# Altium schematic symbol library food_box.SchLib: 19 symbols
Pins are listed as number, name and electrical type; pins without a type are passive.

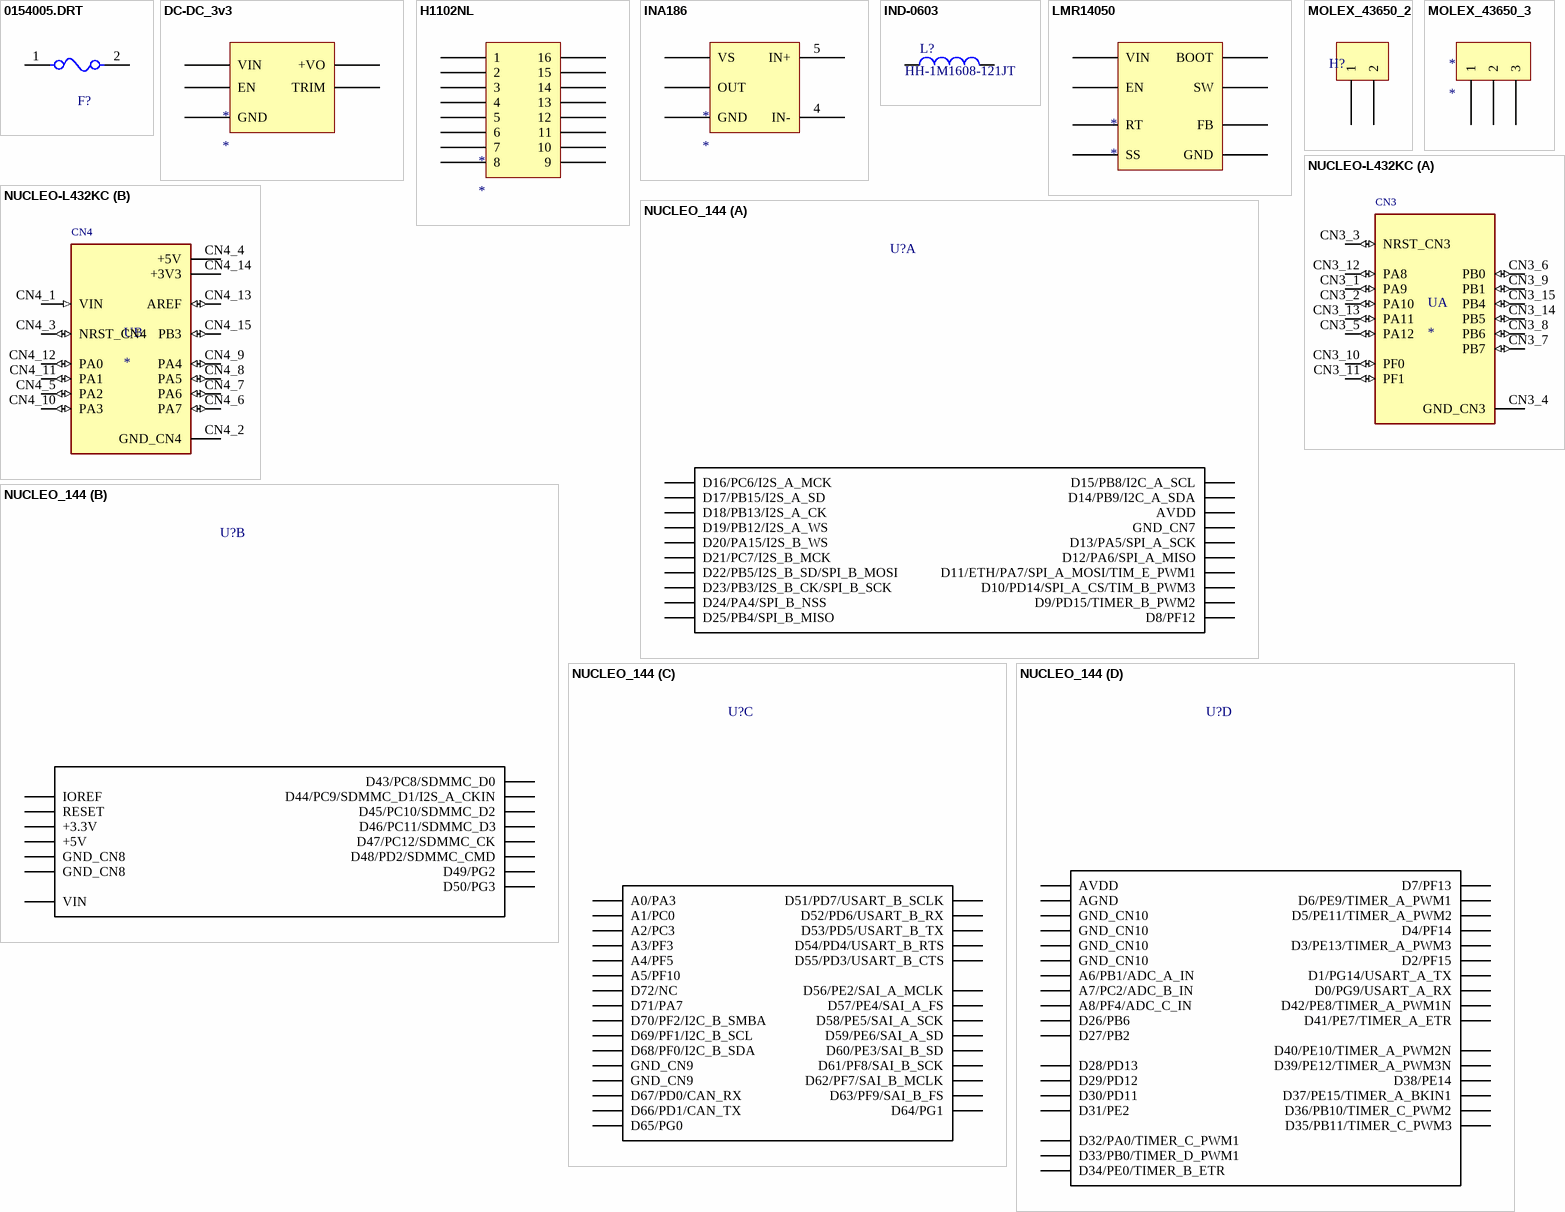
[diagram p0: symbols 0154005.DRT to NUCLEO_144]

## 0154005.DRT
designator F?  (value not drawn)
FUSE BRD MNT 5A 125VAC/VDC 2SMD; Manufacturer: Littelfuse; Manufacturer Part Number: 0154005DRT; Color: White; Body Material: Ceramic,Thermoplastic; Voltage Rating (AC): 125V; DC Cold Resistance: 13.6mR; Power Dissipation: 125W; Fuse Type: Board Mount (Cartridge Style Excluded); Approvals: UL,PSE; Supplier 1: Digi-Key; Supplier Part Number 1: F1310CT-ND; Category: Fuses; Pricing 1: 1=3.140000, 5=3.040000, 10=2.935000, 50=2.306200, 100=1.886900, 250=1.834520, 500=1.572460 (USD); Mount: Surface Mount,Holder; Case/Package: SMD/SMT; Number of Pins: 2; Terminal Material: Copper; Min Operating Temperature: -55°C; Max Operating Temperature: 125°C; Current Rating: 5A; Packaging: Tape and Reel; Voltage Rating (DC): 125V; Package Quantity: 1500; Working Voltage: 125V; Voltage Rating: 125V; Termination: SMD/SMT; Fuse Current: 5A; Length: 9.73mm; Height: 3.81mm; Width: 5.03mm; Depth: 5.03mm; Radiation Hardening: No; Lead Free: Lead Free; REACH SVHC: Unknown; Flammability Rating: UL94 V-0; ComponentLink1URL: https://datasheet.ciiva.com/15187/getdatasheetpartid-71302-15187877.pdf?src-supplier=Verical; ComponentLink1Description: https://datasheet.ciiva.com/15187/getdatasheetpartid-71302-15187877.pdf?src-supplier=Verical; ComponentLink2URL: https://datasheet.ciiva.com/14159/aa154xxx-data-e-14159686.pdf?src-supplier=Distrelec; ComponentLink2Description: https://datasheet.ciiva.com/14159/aa154xxx-data-e-14159686.pdf?src-supplier=Distrelec; ComponentLink3URL: https://datasheet.ciiva.com/22712/1840330-22712966.pdf?src-supplier=Element14; ComponentLink3Description: https://datasheet.ciiva.com/22712/1840330-22712966.pdf?src-supplier=Element14; ComponentLink4URL: https://datasheet.ciiva.com/1268/1840330-1268664.pdf?src-supplier=Element14; ComponentLink4Description: https://datasheet.ciiva.com/1268/1840330-1268664.pdf?src-supplier=Element14; ComponentLink5URL: https://datasheet.ciiva.com/4483/littelfuse-fuse-154-154t-154l-154tl-datasheet-pdf-309941-4483517.pdf?src-supplier=Mouser; ComponentLink5Description: https://datasheet.ciiva.com/4483/littelfuse-fuse-154-154t-154l-154tl-datasheet-pdf-309941-4483517.pdf?src-supplier=Mouser; ComponentLink6URL: https://datasheet.ciiva.com/46406/1840330-46406109.pdf?src-supplier=Element14; ComponentLink6Description: https://datasheet.ciiva.com/46406/1840330-46406109.pdf?src-supplier=Element14; ComponentLink7URL: https://datasheet.ciiva.com/46406/1788337-46406175.pdf?src-supplier=Element14; ComponentLink7Description: https://datasheet.ciiva.com/46406/1788337-46406175.pdf?src-supplier=Element14
footprint Littelfuse_0154_0
pins: 1, 2

## DC-DC_3v3
designator *
footprint V78E-1000-SMT
pins: 1 EN, 2 GND (power), 3 VIN, 4 +VO, 5 TRIM

## H1102NL
designator *
footprint H1102NL
pins: 1, 2, 3, 4, 5, 6, 7, 8, 9, 10, 11, 12, 13, 14, 15, 16

## INA186
designator *
Manufacturer: Texas Instruments; Manufacturer Part Number: INA186A4IDCKR; Supplier 1: Digi-Key; Supplier Part Number 1: 296-INA186A4IDCKRCT-ND; Category: Amplifiers - Op Amps, Buffer, Instrumentation; Pricing 1: 1=1.39000, 10=1.23900, 25=1.17600, 100=0.90300, 250=0.79800, 500=0.75600, 1000=0.58800 (USD)
footprint SOT23-5
pins: 1 GND, 2 OUT, 3 VS, 4 IN-, 5 IN+

## IND-0603
designator L?, comment HH-1M1608-121JT
Inductor 0603(1608)
footprint IND-0603 (Inductor 0603(1608))
pins: 1, 2

## LMR14050
designator *
footprint HSOIC-8
pins: 1 BOOT, 2 VIN, 3 EN, 4 RT, 5 FB, 6 SS, 7 GND, 8 SW

## MOLEX_43650_2
designator H?
Conn Power HDR 3 POS 3mm Solder ST Thru-Hole 3 Terminal 1 Port Micro-Fit 3.0™ Tray; Manufacturer: Molex; Manufacturer Part Number: 43650-0227; Connector Type: Header,Male Pin; Number of Positions: 2; Number of Ports: 1; Contact Resistance: 30mR; Gender: Male; Max Voltage Rating (AC): 250V; Supplier 1: Digi-Key; Supplier Part Number 1: WM10656-ND; Category: Connectors; Pricing 1: 1=0.80000, 10=0.74800, 100=0.57340, 500=0.49860, 1000=0.41135, 5000=0.36149, 10000=0.33656 (USD); Mount: Through Hole; Contact Plating: Tin,Bright; Color: Black; Contact Material: Brass; Housing Material: Thermoplastic; Number of Terminals: 2; Contact Shape: Square; Insulation Material: Polymer; Min Operating Temperature: -40°C; Max Operating Temperature: 105°C; Packaging: Tray; Package Quantity: 3264; Number of Rows: 1; Termination: Solder; Fastening Type: Ramp; Number of Contacts: 2; Orientation: Straight; Length: 9.65mm; Pitch: 3mm; Depth: 5.57mm; ComponentLink1URL: https://datasheet.ciiva.com/6840/436500227-sd-6840390.pdf?src-supplier=Digi-Key; ComponentLink1Description: https://datasheet.ciiva.com/6840/436500227-sd-6840390.pdf?src-supplier=Digi-Key; ComponentLink2URL: https://datasheet.ciiva.com/3944/28290436500227-pcb-headers-3944690.pdf?src-supplier=Arrow; ComponentLink2Description: https://datasheet.ciiva.com/3944/28290436500227-pcb-headers-3944690.pdf?src-supplier=Arrow; ComponentLink3URL: https://datasheet.ciiva.com/30077/0436500227-pcb-headers-30077244.pdf?src-supplier=Onlinecomponents.com; ComponentLink3Description: https://datasheet.ciiva.com/30077/0436500227-pcb-headers-30077244.pdf?src-supplier=Onlinecomponents.com; ComponentLink4URL: https://datasheet.ciiva.com/7920/1629867-7920765.pdf?src-supplier=Element14; ComponentLink4Description: https://datasheet.ciiva.com/7920/1629867-7920765.pdf?src-supplier=Element14; Supplier 2: Digi-Key; Supplier Part Number 2: WM1918-ND; Pricing 2: 1=1.03000, 10=0.90800, 100=0.78360, 500=0.64116, 1000=0.56992, 5000=0.49868, 10000=0.47375 (USD); Housing Color: Black; Max Voltage Rating (DC): 250V; ComponentLink5URL: https://datasheet.ciiva.com/6813/436500516-sd-6813986.pdf?src-supplier=Digi-Key; ComponentLink5Description: https://datasheet.ciiva.com/6813/436500516-sd-6813986.pdf?src-supplier=Digi-Key; ComponentLink6URL: https://datasheet.ciiva.com/26916/getdatasheetpartid-253023-26916517.pdf?src-supplier=Verical; ComponentLink6Description: https://datasheet.ciiva.com/26916/getdatasheetpartid-253023-26916517.pdf?src-supplier=Verical
footprint MOLEX_43650_2 (Molex Microfit 3.0 2P)
pins: 1, 2

## MOLEX_43650_3
designator *
Conn Power HDR 3 POS 3mm Solder ST Thru-Hole 3 Terminal 1 Port Micro-Fit 3.0™ Tray; Manufacturer: Molex; Manufacturer Part Number: 0436500315; Contact Resistance: 30mR; Gender: Male; Number of Positions: 3; Max Voltage Rating (AC): 250V; Connector Type: Male Pin; Number of Ports: 1; Supplier 1: Digi-Key; Supplier Part Number 1: WM1918-ND; Category: Headers and Wire Housings; Pricing 1: 1=1.03000, 10=0.90800, 100=0.78360, 500=0.64116, 1000=0.56992, 5000=0.49868, 10000=0.47375 (USD); Mount: Through Hole; Contact Plating: Tin; Color: Black; Contact Material: Brass; Housing Color: Black; Housing Material: Polymer; Number of Terminals: 3; Min Operating Temperature: -40°C; Max Operating Temperature: 105°C; Packaging: Tray; Number of Rows: 1; Orientation: Straight; Termination: Solder; Number of Contacts: 3; Max Voltage Rating (DC): 250V; Fastening Type: Ramp; Length: 12.65mm; Pitch: 3mm; Depth: 5.57mm; ComponentLink1URL: https://datasheet.ciiva.com/6813/436500516-sd-6813986.pdf?src-supplier=Digi-Key; ComponentLink1Description: https://datasheet.ciiva.com/6813/436500516-sd-6813986.pdf?src-supplier=Digi-Key; ComponentLink2URL: https://datasheet.ciiva.com/26916/getdatasheetpartid-253023-26916517.pdf?src-supplier=Verical; ComponentLink2Description: https://datasheet.ciiva.com/26916/getdatasheetpartid-253023-26916517.pdf?src-supplier=Verical
footprint MOLEX_43650_3 (Molex Microfit 3MM connector 3-pin)
pins: 1, 2, 3

## NUCLEO-L432KC
designator U
STM32L432KC, mbed-Enabled Development Nucleo-32 STM32L4 ARMÂ® CortexÂ®-M4 MCU 32-Bit Embedded Evaluation Board; MF: STMicroelectronics; MP: NUCLEO-L432KC; Price: None; Value: *; Package: None; Availability: Unavailable; SnapEDA_Link: https://www.snapeda.com/parts/NUCLEO-L432KC/STMicroelectronics/view-part/628463/?ref=snap
footprint MODULE_NUCLEO-L432KC
part A pins: CN3_1 PA9 (io), CN3_2 PA10 (io), CN3_3 NRST_CN3 (io), CN3_4 GND_CN3 (power), CN3_5 PA12 (io), CN3_6 PB0 (io), CN3_7 PB7 (io), CN3_8 PB6 (io), CN3_9 PB1 (io), CN3_10 PF0 (io), CN3_11 PF1 (io), CN3_12 PA8 (io), CN3_13 PA11 (io), CN3_14 PB5 (io), CN3_15 PB4 (io)
part B pins: CN4_1 VIN (in), CN4_2 GND_CN4 (power), CN4_3 NRST_CN4 (io), CN4_4 +5V (power), CN4_5 PA2 (io), CN4_6 PA7 (io), CN4_7 PA6 (io), CN4_8 PA5 (io), CN4_9 PA4 (io), CN4_10 PA3 (io), CN4_11 PA1 (io), CN4_12 PA0 (io), CN4_13 AREF (io), CN4_14 +3V3 (power), CN4_15 PB3 (io)
part A text: CN3
part B text: CN4

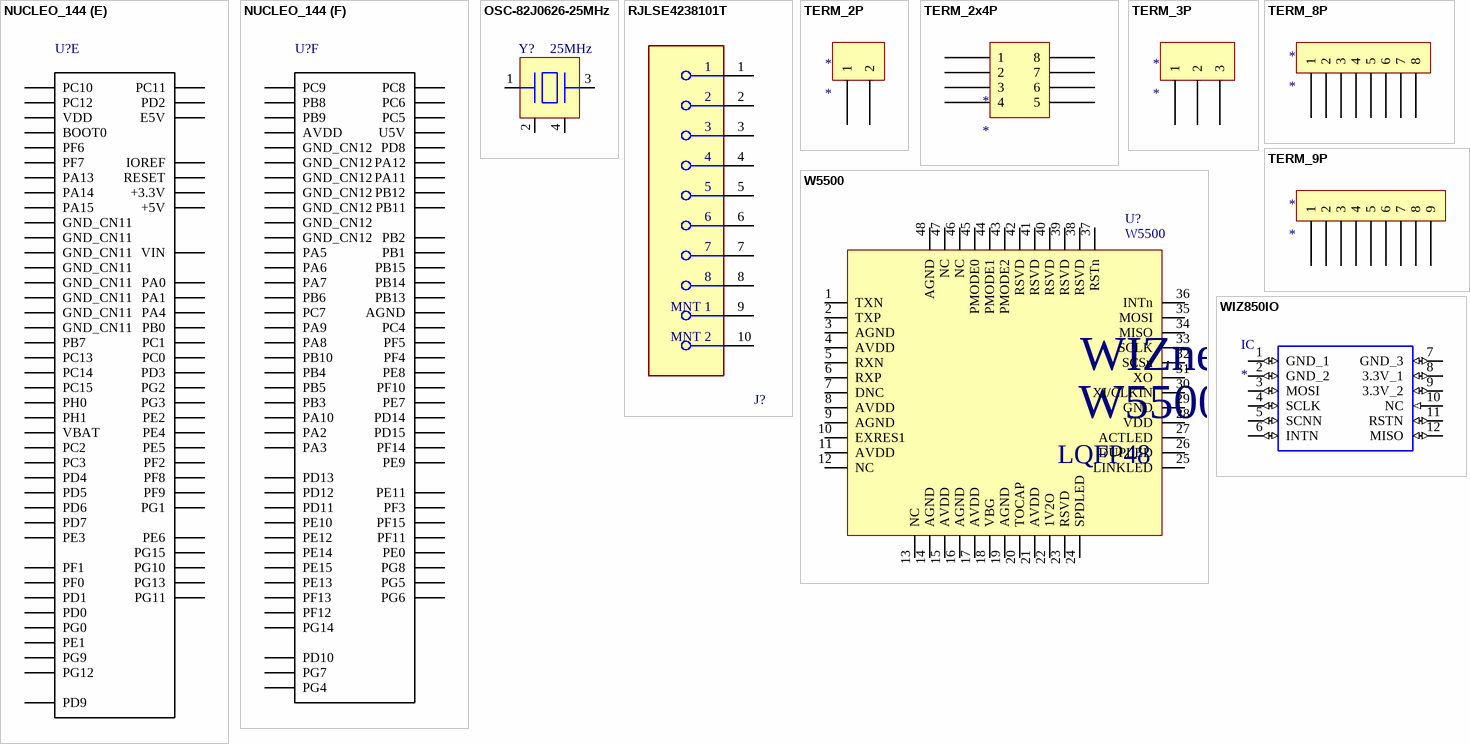
[diagram p1: symbols NUCLEO_144 to WIZ850IO]

## NUCLEO_144
designator U?
STM32 NUCLEO-144 BOARD
footprint NUCLEO_144 (STM32 Nucelo 144 format)
part A pins: CN7_1 D16/PC6/I2S_A_MCK, CN7_2 D15/PB8/I2C_A_SCL, CN7_3 D17/PB15/I2S_A_SD, CN7_4 D14/PB9/I2C_A_SDA, CN7_5 D18/PB13/I2S_A_CK, CN7_6 AVDD, CN7_7 D19/PB12/I2S_A_WS, CN7_8 GND_CN7, CN7_9 D20/PA15/I2S_B_WS, CN7_10 D13/PA5/SPI_A_SCK, CN7_11 D21/PC7/I2S_B_MCK, CN7_12 D12/PA6/SPI_A_MISO, CN7_13 D22/PB5/I2S_B_SD/SPI_B_MOSI, CN7_14 D11/ETH/PA7/SPI_A_MOSI/TIM_E_PWM1, CN7_15 D23/PB3/I2S_B_CK/SPI_B_SCK, CN7_16 D10/PD14/SPI_A_CS/TIM_B_PWM3, CN7_17 D24/PA4/SPI_B_NSS, CN7_18 D9/PD15/TIMER_B_PWM2, CN7_19 D25/PB4/SPI_B_MISO, CN7_20 D8/PF12
part B pins: CN8_2 D43/PC8/SDMMC_D0, CN8_3 IOREF, CN8_4 D44/PC9/SDMMC_D1/I2S_A_CKIN, CN8_5 RESET, CN8_6 D45/PC10/SDMMC_D2, CN8_7 +3.3V, CN8_8 D46/PC11/SDMMC_D3, CN8_9 +5V, CN8_10 D47/PC12/SDMMC_CK, CN8_11 GND_CN8, CN8_12 D48/PD2/SDMMC_CMD, CN8_13 GND_CN8, CN8_14 D49/PG2, CN8_15 VIN, CN8_16 D50/PG3
part C pins: CN9_1 A0/PA3, CN9_2 D51/PD7/USART_B_SCLK, CN9_3 A1/PC0, CN9_4 D52/PD6/USART_B_RX, CN9_5 A2/PC3, CN9_6 D53/PD5/USART_B_TX, CN9_7 A3/PF3, CN9_8 D54/PD4/USART_B_RTS, CN9_9 A4/PF5, CN9_10 D55/PD3/USART_B_CTS, CN9_11 A5/PF10, CN9_12 GND_CN9, CN9_13 D72/NC, CN9_14 D56/PE2/SAI_A_MCLK, CN9_15 D71/PA7, CN9_16 D57/PE4/SAI_A_FS, CN9_17 D70/PF2/I2C_B_SMBA, CN9_18 D58/PE5/SAI_A_SCK, CN9_19 D69/PF1/I2C_B_SCL, CN9_20 D59/PE6/SAI_A_SD, CN9_21 D68/PF0/I2C_B_SDA, CN9_22 D60/PE3/SAI_B_SD, CN9_23 GND_CN9, CN9_24 D61/PF8/SAI_B_SCK, CN9_25 D67/PD0/CAN_RX, CN9_26 D62/PF7/SAI_B_MCLK, CN9_27 D66/PD1/CAN_TX, CN9_28 D63/PF9/SAI_B_FS, CN9_29 D65/PG0, CN9_30 D64/PG1
part D pins: CN10_1 AVDD, CN10_2 D7/PF13, CN10_3 AGND, CN10_4 D6/PE9/TIMER_A_PWM1, CN10_5 GND_CN10, CN10_6 D5/PE11/TIMER_A_PWM2, CN10_7 A6/PB1/ADC_A_IN, CN10_8 D4/PF14, CN10_9 A7/PC2/ADC_B_IN, CN10_10 D3/PE13/TIMER_A_PWM3, CN10_11 A8/PF4/ADC_C_IN, CN10_12 D2/PF15, CN10_13 D26/PB6, CN10_14 D1/PG14/USART_A_TX, CN10_15 D27/PB2, CN10_16 D0/PG9/USART_A_RX, CN10_17 GND_CN10, CN10_18 D42/PE8/TIMER_A_PWM1N, CN10_19 D28/PD13, CN10_20 D41/PE7/TIMER_A_ETR, CN10_21 D29/PD12, CN10_22 GND_CN10, CN10_23 D30/PD11, CN10_24 D40/PE10/TIMER_A_PWM2N, CN10_25 D31/PE2, CN10_26 D39/PE12/TIMER_A_PWM3N, CN10_27 GND_CN10, CN10_28 D38/PE14, CN10_29 D32/PA0/TIMER_C_PWM1, CN10_30 D37/PE15/TIMER_A_BKIN1, CN10_31 D33/PB0/TIMER_D_PWM1, CN10_32 D36/PB10/TIMER_C_PWM2, CN10_33 D34/PE0/TIMER_B_ETR, CN10_34 D35/PB11/TIMER_C_PWM3
part E pins: CN11_1 PC10, CN11_2 PC11, CN11_3 PC12, CN11_4 PD2, CN11_5 VDD, CN11_6 E5V, CN11_7 BOOT0, CN11_8 GND_CN11, CN11_9 PF6, CN11_11 PF7, CN11_12 IOREF, CN11_13 PA13, CN11_14 RESET, CN11_15 PA14, CN11_16 +3.3V, CN11_17 PA15, CN11_18 +5V, CN11_19 GND_CN11, CN11_20 GND_CN11, CN11_21 PB7, CN11_22 GND_CN11, CN11_23 PC13, CN11_24 VIN, CN11_25 PC14, CN11_27 PC15, CN11_28 PA0, CN11_29 PH0, CN11_30 PA1, CN11_31 PH1, CN11_32 PA4, CN11_33 VBAT, CN11_34 PB0, CN11_35 PC2, CN11_36 PC1, CN11_37 PC3, CN11_38 PC0, CN11_39 PD4, CN11_40 PD3, CN11_41 PD5, CN11_42 PG2, CN11_43 PD6, CN11_44 PG3, CN11_45 PD7, CN11_46 PE2, CN11_47 PE3, CN11_48 PE4, CN11_49 GND_CN11, CN11_50 PE5, CN11_51 PF1, CN11_52 PF2, CN11_53 PF0, CN11_54 PF8, CN11_55 PD1, CN11_56 PF9, CN11_57 PD0, CN11_58 PG1, CN11_59 PG0, CN11_60 GND_CN11, CN11_61 PE1, CN11_62 PE6, CN11_63 PG9, CN11_64 PG15, CN11_65 PG12, CN11_66 PG10, CN11_68 PG13, CN11_69 PD9, CN11_70 PG11, CN11_71 GND_CN11, CN11_72 GND_CN11
part F pins: CN12_1 PC9, CN12_2 PC8, CN12_3 PB8, CN12_4 PC6, CN12_5 PB9, CN12_6 PC5, CN12_7 AVDD, CN12_8 U5V, CN12_9 GND_CN12, CN12_10 PD8, CN12_11 PA5, CN12_12 PA12, CN12_13 PA6, CN12_14 PA11, CN12_15 PA7, CN12_16 PB12, CN12_17 PB6, CN12_18 PB11, CN12_19 PC7, CN12_20 GND_CN12, CN12_21 PA9, CN12_22 PB2, CN12_23 PA8, CN12_24 PB1, CN12_25 PB10, CN12_26 PB15, CN12_27 PB4, CN12_28 PB14, CN12_29 PB5, CN12_30 PB13, CN12_31 PB3, CN12_32 AGND, CN12_33 PA10, CN12_34 PC4, CN12_35 PA2, CN12_36 PF5, CN12_37 PA3, CN12_38 PF4, CN12_39 GND_CN12, CN12_40 PE8, CN12_41 PD13, CN12_42 PF10, CN12_43 PD12, CN12_44 PE7, CN12_45 PD11, CN12_46 PD14, CN12_47 PE10, CN12_48 PD15, CN12_49 PE12, CN12_50 PF14, CN12_51 PE14, CN12_52 PE9, CN12_53 PE15, CN12_54 GND_CN12, CN12_55 PE13, CN12_56 PE11, CN12_57 PF13, CN12_58 PF3, CN12_59 PF12, CN12_60 PF15, CN12_61 PG14, CN12_62 PF11, CN12_63 GND_CN12, CN12_64 PE0, CN12_65 PD10, CN12_66 PG8, CN12_67 PG7, CN12_68 PG5, CN12_69 PG4, CN12_70 PG6, CN12_71 GND_CN12, CN12_72 GND_CN12

## OSC-82J0626-25MHz
designator Y?, comment 25MHz
CRYSTAL 25.0000MHZ 18PF SMD; Manufacturer: Epson; Manufacturer Part Number: FA-23825.0000MB-C3; Frequency Tolerance: 50ppm; ESR (Equivalent Series Resistance): 50R; Frequency Stability: 30ppm; Supplier 1: Digi-Key; Supplier Part Number 1: SER3691CT-ND; Category: Crystals; Mount: Surface Mount; Case/Package: SMD/SMT; Weight: 0.000564oz; Min Operating Temperature: -20°C; Max Operating Temperature: 70°C; Frequency: 25MHz; Load Capacitance: 18pF; Package Quantity: 250; Packaging: Tape and Reel; Tolerance: 50ppm; Termination: SMD/SMT; Length: 0.126inch; Height: 0.028inch; Width: 0.098inch; Lead Free: Lead Free; ComponentLink1URL: http://www.mouser.com/ds/2/137/A-238_en-932914.pdf?src-supplier=Mouser; ComponentLink1Description: http://www.mouser.com/ds/2/137/A-238_en-932914.pdf?src-supplier=Mouser; ComponentLink2URL: https://www5.epsondevice.com/en/information/support/pdf/june_2018_psc_masterbook.pdf?src-supplier=Digi-Key; ComponentLink2Description: https://www5.epsondevice.com/en/information/support/pdf/june_2018_psc_masterbook.pdf?src-supplier=Digi-Key
footprint OSC-82J0626
pins: 1, 2, 3, 4

## RJLSE4238101T
designator J?  (value not drawn)
CONN MOD JACK 8P8C R/A SHIELDED; Manufacturer: Amphenol Commercial; Manufacturer Part Number: RJLSE4238101T; Number of Ports: 1; Direction: Down; Connector Type: RJ45; Number of Positions Loaded: 8; Gender: Male; Pitch: 1.27mm; Supplier 1: Digi-Key; Supplier Part Number 1: RJLSE4238101TCT-ND; Category: Modular / Ethernet Connectors; Pricing 1: 1=2.27000, 10=2.06100, 25=1.93520, 50=1.85100 (USD); Mount: Surface Mount; Contact Material: Bronze; Housing Material: Thermoplastic; Contact Plating: Gold; Color: Black; Housing Color: Black; Min Operating Temperature: -55°C; Max Operating Temperature: 85°C; Termination: SMD/SMT; Packaging: Tape and Reel; Shielding: Shielded; Number of Rows: 1; Orientation: Right Angle; Package Quantity: 800; Number of Contacts: 8; Length: 15.74mm; Depth: 17.53mm; REACH SVHC: Unknown; Flammability Rating: UL94 V-3; ComponentLink1URL: http://www.mouser.com/ds/2/18/RJHSE%20Series-183739.pdf?src-supplier=Mouser; ComponentLink1Description: http://www.mouser.com/ds/2/18/RJHSE%20Series-183739.pdf?src-supplier=Mouser; ComponentLink2URL: http://components.arrow.com/part/dataview/0323_03288564?src-supplier=Arrow+Europe; ComponentLink2Description: http://components.arrow.com/part/dataview/0323_03288564?src-supplier=Arrow+Europe; ComponentLink3URL: http://www.alliedelec.com/m/d/33c358db59de6280508c67d1721fb3a2.pdf?src-supplier=Allied+Electronics; ComponentLink3Description: http://www.alliedelec.com/m/d/33c358db59de6280508c67d1721fb3a2.pdf?src-supplier=Allied+Electronics
footprint RJ45
pins: 1, 2, 3, 4, 5, 6, 7, 8, 9 MNT 1, 10 MNT 2

## TERM_2P
designator *
pins: 1, 2

## TERM_2x4P
designator *
footprint MOLEX_43045_2X4 (MOLEX 43045 3.0mm 8P)
pins: 1, 2, 3, 4, 5, 6, 7, 8

## TERM_3P
designator *
pins: 1, 2, 3

## TERM_8P
designator *
pins: 1, 2, 3, 4, 5, 6, 7, 8

## TERM_9P
designator *
pins: 1, 2, 3, 4, 5, 6, 7, 8, 9

## W5500
designator U?
WIZnet W5500
footprint WIZnet W5500 (48 Pin LQFP Lead-Free Package (7x7mm, 0.5mm pitch))
pins: 1 TXN, 2 TXP, 3 AGND, 4 AVDD, 5 RXN, 6 RXP, 7 DNC, 8 AVDD, 9 AGND, 10 EXRES1, 11 AVDD, 12 NC, 13 NC, 14 AGND, 15 AVDD, 16 AGND, 17 AVDD, 18 VBG, 19 AGND, 20 TOCAP, 21 AVDD, 22 1V2O, 23 RSVD, 24 SPDLED, 25 LINKLED, 26 DUPLED, 27 ACTLED, 28 VDD, 29 GND, 30 XI/CLKIN, 31 XO, 32 SCSn, 33 SCLK, 34 MISO, 35 MOSI, 36 INTn, 37 RSTn, 38 RSVD, 39 RSVD, 40 RSVD, 41 RSVD, 42 RSVD, 43 PMODE2, 44 PMODE1, 45 PMODE0, 46 NC, 47 NC, 48 AGND
text: WIZnet; LQFP48

## WIZ850IO
designator IC
Ethernet 10/100 Base-T/TX PHY SPI Interface Module; MF: WIZnet; MP: WIZ850IO; Package: Module WIZnet; Price: None; Value: *; DigiKey-Purchase-URL: https://snapeda.com/shop?store=DigiKey&id=626391; SnapEDA_Link: https://www.snapeda.com/parts/WIZ850IO/WIZnet/view-part/626391/?ref=snap; Availability: Unavailable
footprint WIZ850io
pins: 1 GND_1 (io), 2 GND_2 (io), 3 MOSI (io), 4 SCLK (io), 5 SCNN (io), 6 INTN (io), 7 GND_3 (io), 8 3.3V_1 (io), 9 3.3V_2 (io), 10 NC (in), 11 RSTN (io), 12 MISO (io)